# EAGLE library part 1407УД1 (library operational-amplifier)
АЕНВ.431130.197 ТУ 1407УД1СВК, 1407УД1С1ВК - широкополосный малошумящий операционный усилитель, предназначенный для применения в радиоэлектронной аппаратуре специального назначения. Имеет две группы исполнения по параметрам (А и Б). Отличительные особенности: • ток потребления задается внешним резистором; • пониженное напряжение питания; • широкая полоса пропускания; • низкий уровень собственных шумов; • повышенная стойкость к СВВФ; • является полным аналогом ИС 1407УД1. Микросхема в исполненении СВК покрыта золотом, в исполнении С1ВК - никелем. Производитель: АО "Восход"-КРЛЗ г. Калуга.
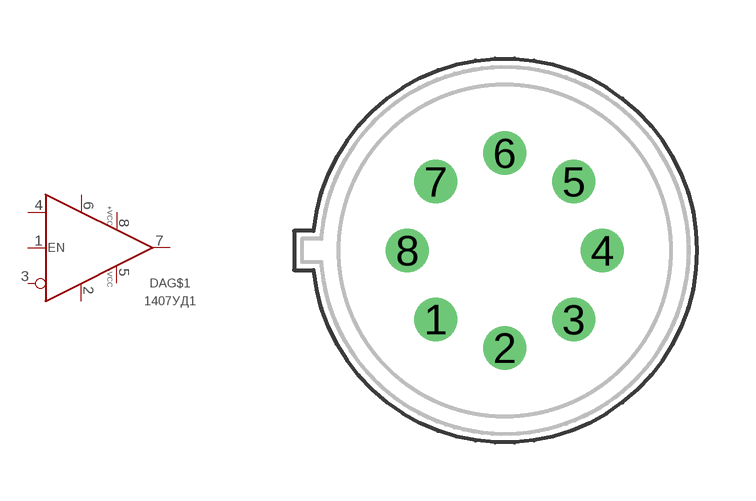
[diagram p0: symbol with the pads of 3101.8-8.01; footprint 3101.8-8.01]

Designator prefix DA; gates G$1=OPERATIONAL-AMPLIFIER-BALANCE-PD G$2=POWER_2

## 1407УД1СВК  [3101.8-8.01]
1  G$1:PD  in
2  G$1:!BAL  pas
3  G$1:!IN  in
4  G$1:IN  in
5  G$2:-VCC  pwr
6  G$1:BAL  pas
7  G$1:OUT  out
8  G$2:+VCC  pwr

## 1407УД1С1ВК  [3101.8-8.01]
Pads as for 3101.8-8.01

## Footprint 3101.8-8.01 (pad centres in mm)
drill 0.6: 1 -1.768,-1.768; 2 0,-2.5; 3 1.768,-1.768; 4 2.5,0; 5 1.768,1.768; 6 0,2.5; 7 -1.768,1.768; 8 -2.5,0